# EAGLE library part PIC32MX170F256B-I/SS (library micromouse)
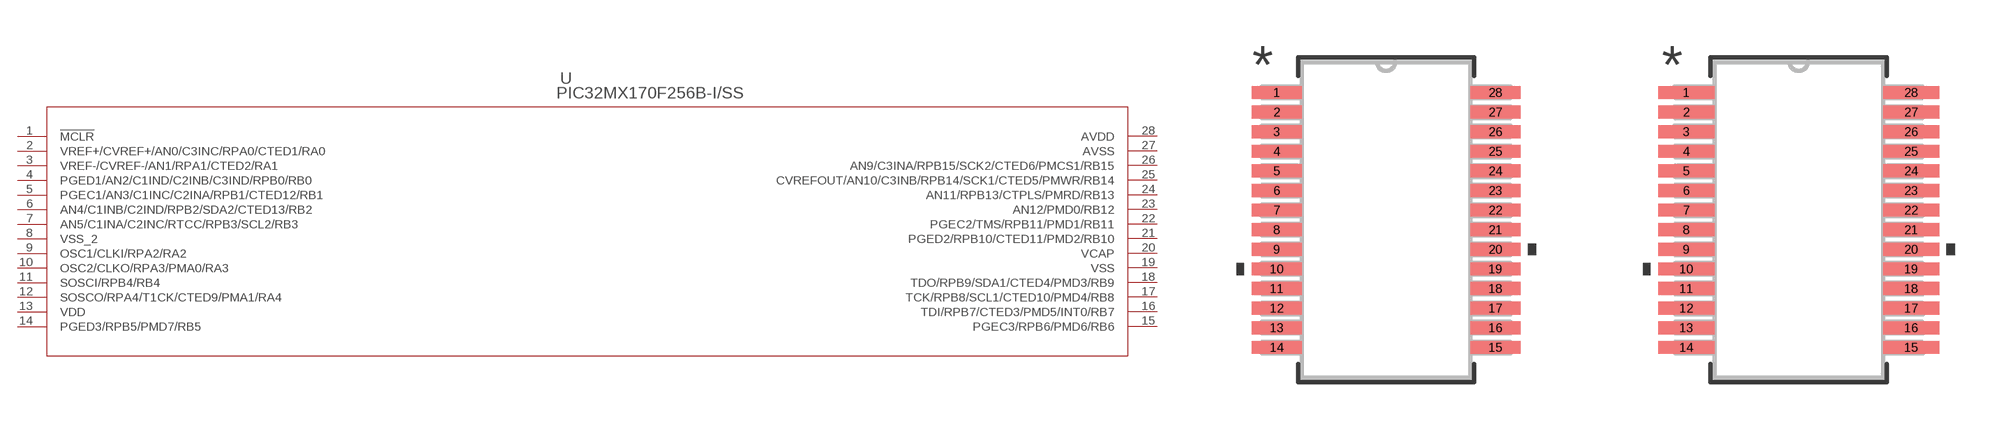
[diagram p9: symbol with the pads of SSOP28_MC_MCH; footprints SSOP28_MC_MCH, SSOP28_MC_MCH-M]

Designator prefix U

## PIC32MX170F256B-I/SS (COPYRIGHT: Copyright (C) 2021 Ultra Librarian. All rights reserved.; MANUFACTURER_PART_NUMBER: PIC32MX170F256B-I/SS; MFR_NAME: Microchip)  [SSOP28_MC_MCH]
1  !MCLR
2  VREF+/CVREF+/AN0/C3INC/RPA0/CTED1/RA0
3  VREF-/CVREF-/AN1/RPA1/CTED2/RA1
4  PGED1/AN2/C1IND/C2INB/C3IND/RPB0/RB0
5  PGEC1/AN3/C1INC/C2INA/RPB1/CTED12/RB1
6  AN4/C1INB/C2IND/RPB2/SDA2/CTED13/RB2
7  AN5/C1INA/C2INC/RTCC/RPB3/SCL2/RB3
8  VSS_2  pwr
9  OSC1/CLKI/RPA2/RA2
10  OSC2/CLKO/RPA3/PMA0/RA3
11  SOSCI/RPB4/RB4
12  SOSCO/RPA4/T1CK/CTED9/PMA1/RA4
13  VDD  pwr
14  PGED3/RPB5/PMD7/RB5
15  PGEC3/RPB6/PMD6/RB6
16  TDI/RPB7/CTED3/PMD5/INT0/RB7
17  TCK/RPB8/SCL1/CTED10/PMD4/RB8
18  TDO/RPB9/SDA1/CTED4/PMD3/RB9
19  VSS  pwr
20  VCAP  pwr
21  PGED2/RPB10/CTED11/PMD2/RB10
22  PGEC2/TMS/RPB11/PMD1/RB11
23  AN12/PMD0/RB12
24  AN11/RPB13/CTPLS/PMRD/RB13
25  CVREFOUT/AN10/C3INB/RPB14/SCK1/CTED5/PMWR/RB14
26  AN9/C3INA/RPB15/SCK2/CTED6/PMCS1/RB15
27  AVSS  pwr
28  AVDD  pwr

## PIC32MX170F256B-I/SSSSOP28_MC_MCH-M (COPYRIGHT: Copyright (C) 2021 Ultra Librarian. All rights reserved.; MANUFACTURER_PART_NUMBER: PIC32MX170F256B-I/SS; MFR_NAME: Microchip)  [SSOP28_MC_MCH-M]
Pads as for SSOP28_MC_MCH

## PIC32MX170F256B-I/SSSSOP28_MC_MCH-L (COPYRIGHT: Copyright (C) 2021 Ultra Librarian. All rights reserved.; MANUFACTURER_PART_NUMBER: PIC32MX170F256B-I/SS; MFR_NAME: Microchip)  [SSOP28_MC_MCH-L]
Pads as for SSOP28_MC_MCH

## Footprint SSOP28_MC_MCH (pad centres in mm)
smd 1.664 x 0.432: 1 -3.626,4.225; 2 -3.626,3.575; 3 -3.626,2.925; 4 -3.626,2.275; 5 -3.626,1.625; 6 -3.626,0.975; 7 -3.626,0.325; 8 -3.626,-0.325; 9 -3.626,-0.975; 10 -3.626,-1.625; 11 -3.626,-2.275; 12 -3.626,-2.925; 13 -3.626,-3.575; 14 -3.626,-4.225; 15 3.626,-4.225; 16 3.626,-3.575; 17 3.626,-2.925; 18 3.626,-2.275; 19 3.626,-1.625; 20 3.626,-0.975; 21 3.626,-0.325; 22 3.626,0.325; 23 3.626,0.975; 24 3.626,1.625; 25 3.626,2.275; 26 3.626,2.925; 27 3.626,3.575; 28 3.626,4.225

## Footprint SSOP28_MC_MCH-M (pad centres in mm)
smd 1.867 x 0.432: 1 -3.727,4.225; 2 -3.727,3.575; 3 -3.727,2.925; 4 -3.727,2.275; 5 -3.727,1.625; 6 -3.727,0.975; 7 -3.727,0.325; 8 -3.727,-0.325; 9 -3.727,-0.975; 10 -3.727,-1.625; 11 -3.727,-2.275; 12 -3.727,-2.925; 13 -3.727,-3.575; 14 -3.727,-4.225; 15 3.727,-4.225; 16 3.727,-3.575; 17 3.727,-2.925; 18 3.727,-2.275; 19 3.727,-1.625; 20 3.727,-0.975; 21 3.727,-0.325; 22 3.727,0.325; 23 3.727,0.975; 24 3.727,1.625; 25 3.727,2.275; 26 3.727,2.925; 27 3.727,3.575; 28 3.727,4.225

## Footprint SSOP28_MC_MCH-L (pad centres in mm)
smd 1.372 x 0.381: 1 -3.569,4.225; 2 -3.569,3.575; 3 -3.569,2.925; 4 -3.569,2.275; 5 -3.569,1.625; 6 -3.569,0.975; 7 -3.569,0.325; 8 -3.569,-0.325; 9 -3.569,-0.975; 10 -3.569,-1.625; 11 -3.569,-2.275; 12 -3.569,-2.925; 13 -3.569,-3.575; 14 -3.569,-4.225; 15 3.569,-4.225; 16 3.569,-3.575; 17 3.569,-2.925; 18 3.569,-2.275; 19 3.569,-1.625; 20 3.569,-0.975; 21 3.569,-0.325; 22 3.569,0.325; 23 3.569,0.975; 24 3.569,1.625; 25 3.569,2.275; 26 3.569,2.925; 27 3.569,3.575; 28 3.569,4.225